# Altium schematic symbol library SCH - POWER - LINEAR VREG - TI TL1963ADCQ.SchLib: 1 symbol
Pins are listed as number, name and electrical type; pins without a type are passive.

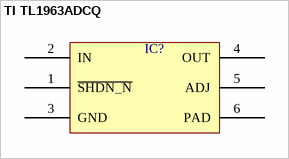
[diagram p0: symbol TI TL1963ADCQ]

## TI TL1963ADCQ
designator IC?  (value not drawn)
pins: 1 ~{SHDN_N}, 2 IN, 3 GND, 4 OUT, 5 ADJ, 6 PAD